# Altium footprint library Relay.PcbLib: 5 footprints
Each footprint in its own frame and in the unit in brackets; x right, y up, seen from the top. Pads: shape width x height; smd on the part's side, far side on the other; paste and mask are expansions set on the pad; w line width, h text height; cw(c..) or ccw(c..) is an arc to the next point about the centre after c.
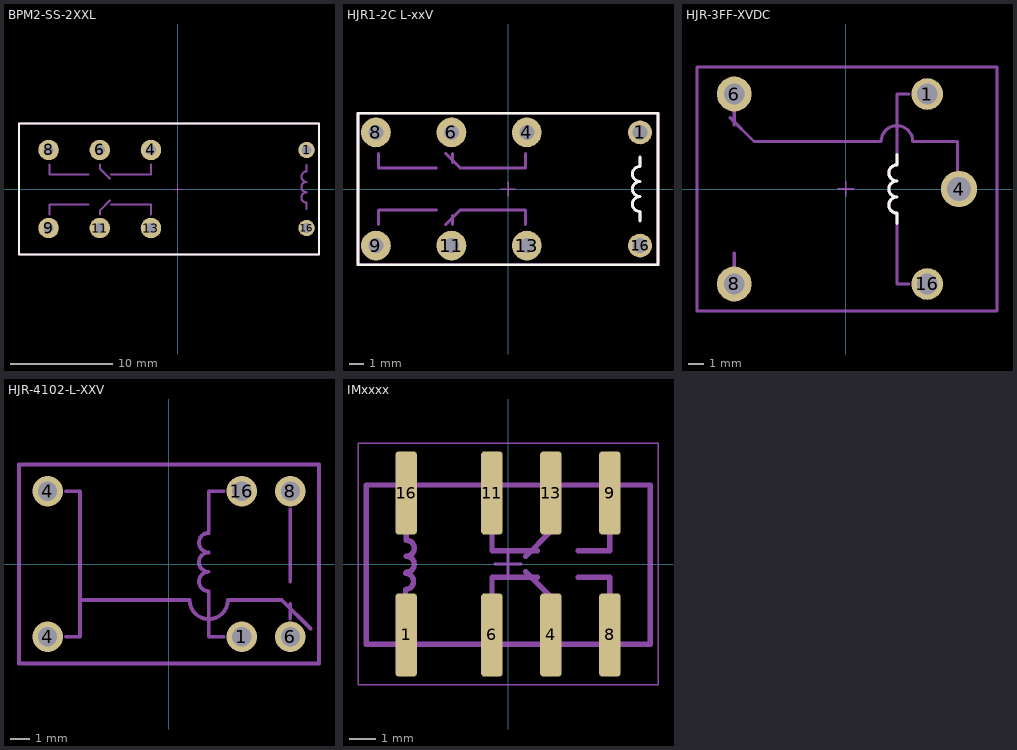
[diagram p0: the footprints below, top view; thin cyan lines are the x and y axes]

## BPM2-SS-2XXL [mm] "Relay с двумя парами контактов"
pads (8):
  round 1.6 hole 1: 1(12.6,3.81) 16(12.6,-3.81)
  round 2 hole 1: 4(-2.6,3.81) 6(-7.6,3.81) 8(-12.6,3.81) 9(-12.6,-3.81) 11(-7.6,-3.81) 13(-2.6,-3.81)
Top Overlay:
  lines w0.2: -15.49,-6.4 -15.49,6.4 13.81,6.4 13.81,-6.4 -15.49,-6.4
Top Assembly:
  lines w0.2: -12.505,-2.5 -12.505,-1.5 -8.705,-1.5 ; -12.505,2.4 -12.505,1.4 -8.705,1.4 ; -7.6,-2.5 -7.6,-2.105 -6.605,-1.11 ; -7.6,2.4 -7.6,2.005 -6.605,1.01 ; -6.505,-1.5 -2.6,-1.5 -2.6,-2.5 ; -6.505,1.4 -2.6,1.4 -2.6,2.4 ; 12.6,-1.968 12.6,-1.333 cw(c12.6,-0.825) 12.6,-0.317 cw(c12.6,0.191) 12.6,0.699 cw(c12.6,1.207) 12.6,1.715 12.6,2.349 ; -15.49,-6.4 -15.49,6.4 13.81,6.4 13.81,-6.4 -15.49,-6.4
Top Designator:
  text ".Designator" at 1.501,-0.233 h0.7
Top Courtyard (Mech15):
  lines w0.05: -15.49,-6.4 13.81,-6.4 13.81,6.4 -15.49,6.4 -15.49,-6.4
  lines w0.1: -0.5,0 0.5,0 ; 0,-0.5 0,0.5
3D body: height 20.4, standoff 0, extent -15.49,-6.4 13.81,6.4
3D body: height 0, standoff 0, extent 12.203,3.411 13,4.209
3D body: height 0, standoff 0, extent 12.203,-4.209 13,-3.411
3D body: height 0, standoff 0, extent -2.997,-4.209 -2.2,-3.411
3D body: height 0, standoff 0, extent -7.997,-4.209 -7.2,-3.411
3D body: height 0, standoff 0, extent -12.997,-4.209 -12.2,-3.411
3D body: height 0, standoff 0, extent -12.997,3.411 -12.2,4.209
3D body: height 0, standoff 0, extent -7.997,3.411 -7.2,4.209
3D body: height 0, standoff 0, extent -2.997,3.411 -2.2,4.209

## HJR1-2C L-xxV [mm] "Relay с двумя парами контактов"
pads (8):
  round 1.6 hole 1: 1(8.89,3.81) 16(8.89,-3.81)
  round 2 hole 1: 4(1.27,3.81) 6(-3.81,3.81) 8(-8.89,3.81) 9(-8.89,-3.81) 11(-3.81,-3.81) 13(1.27,-3.81)
Top Overlay:
  lines w0.2: 8.89,-2.159 8.89,-1.524 cw(c8.89,-1.016) 8.89,-0.508 cw(c8.89,0) 8.89,0.508 cw(c8.89,1.016) 8.89,1.524 8.89,2.159 ; -10.1,-5.1 10.1,-5.1 10.1,5.1 -10.1,5.1 -10.1,-5.1
Top Assembly:
  lines w0.2: -8.73,-2.4 -8.73,-1.4 -4.825,-1.4 ; -8.73,2.4 -8.73,1.4 -4.825,1.4 ; -4.2,-2.4 -3.2,-1.4 -2.625,-1.4 1.175,-1.4 1.175,-2.4 ; -4.2,2.4 -3.2,1.4 -2.625,1.4 1.175,1.4 1.175,2.4 ; -3.73,-2.4 -3.73,-1.8 ; -3.73,1.8 -3.73,2.4 ; 8.89,-2.159 8.89,-1.524 cw(c8.89,-1.016) 8.89,-0.508 cw(c8.89,0) 8.89,0.508 cw(c8.89,1.016) 8.89,1.524 8.89,2.159 ; -10.1,-5.1 10.1,-5.1 10.1,5.1 -10.1,5.1 -10.1,-5.1
Top Designator:
  text ".Designator" at 1.501,-0.233 h0.7
Top Courtyard (Mech15):
  lines w0.05: -10.1,-5.1 -10.1,5.1 10.1,5.1 10.1,-5.1 -10.1,-5.1
  lines w0.1: -0.5,0 0.5,0 ; 0,-0.5 0,0.5
3D body "SW3dPS-HFD27.STEP": height 11.52, standoff -3.09, extent -10.1,-5 10.1,5

## HJR-3FF-XVDC [mm] "Relay - ВОПРОСЫ ПО ПОСАДОЧНОМУ МЕСТУ"
pads (5):
  round 2 hole 1.3: 1(5.15,6) 16(5.15,-6)
  round 2.3 hole 1.5: 4(7.15,0)
  round 2.2 hole 1.3: 6(-7.05,6) 8(-7.05,-6)
Top Overlay:
  lines w0.2: 3.23,-2.159 3.23,-1.524 cw(c3.23,-1.016) 3.23,-0.508 cw(c3.23,0) 3.23,0.508 cw(c3.23,1.016) 3.23,1.524 3.23,2.159
Top Assembly:
  lines w0.2: -7.3,4.5 -5.8,3 -4.4,3 2.23,3 cw(c3.23,3) 4.23,3 7.05,3 7.05,0 ; -7.05,-6 -7.05,-4.05 ; -7.05,4.05 -7.05,6 ; 4,-6 3.23,-6 3.23,-2.159 3.23,-1.524 cw(c3.23,-1.016) 3.23,-0.508 cw(c3.23,0) 3.23,0.508 cw(c3.23,1.016) 3.23,1.524 3.23,2.159 3.23,6 4,6 ; -9.4,-7.7 -9.4,7.7 ; -9.4,-7.7 9.55,-7.7 ; -9.4,-7.7 -9.4,7.7 ; -9.4,-7.7 9.55,-7.7 ; -9.4,7.7 9.55,7.7 ; -9.4,7.7 9.55,7.7 ; 9.55,-7.7 9.55,7.7 ; 9.55,-7.7 9.55,7.7
  text "NC" at -6.8,4.5 h0.3
  text "NO" at -6.8,-4.825 h0.3
  text "COM" at 6,1.2 h0.3
Top Designator:
  text ".Designator" at -4.499,-0.233 h0.7
Top Courtyard (Mech15):
  lines w0.05: -9.4,-7.7 9.55,-7.7 9.55,7.7 -9.4,7.7 -9.4,-7.7
  lines w0.1: -0.5,0 0.5,0 ; 0,-0.5 0,0.5
3D body "User Library-Tianbo Relay ( HJR-3FF-S-Z).step": height 15.51, standoff -2.2, extent -10.5,-7.75 8.5,7.75

## HJR-4102-L-XXV [mm]
pads (6):
  round 1.6 hole 1: 1(3.81,-3.81) 4(-6.35,-3.81) 4(-6.35,3.81) 6(6.35,-3.81) 8(6.35,3.81) 16(3.81,3.81)
Top Assembly:
  lines w0.2: -5.39,-3.81 -4.65,-3.81 -4.65,-1.884 ; -5.39,3.81 -4.65,3.81 -4.65,-1.884 ; 2.85,-3.81 2.08,-3.81 2.08,-2.059 2.08,-1.424 cw(c2.08,-0.916) 2.08,-0.408 cw(c2.08,0.1) 2.08,0.608 cw(c2.08,1.116) 2.08,1.624 2.08,2.259 2.08,3.81 2.85,3.81 ; 6.35,-2.85 6.35,-2.08 ; 6.35,-0.916 6.35,2.85 ; 7.4,-3.384 5.9,-1.884 3.08,-1.884 cw(c2.08,-1.884) 1.08,-1.884 -4.65,-1.884 ; -7.85,-5.2 -7.85,5.2 7.85,5.2 7.85,-5.2 -7.85,-5.2
  text "COM" at -5.85,-2.8 h0.3
  text "NO" at 5.35,2.5 h0.3
  text "NC" at 5.35,-2.7 h0.3
Top Designator:
  text ".Designator" at -4.999,-0.233 h0.7
Top Courtyard (Mech15):
  lines w0.05: -7.85,-5.2 -7.85,5.2 7.85,5.2 7.85,-5.2 -7.85,-5.2
3D body "User Library-HJR-4102.step": height 11.8, standoff -2.14, extent -7.85,-5.2 7.85,5.2

## IMxxxx [mm]
pads (8):
  rrect30% 0.8x3.1 smd: 1(-3.8,-2.65) 4(1.6,-2.65) 6(-0.6,-2.65) 8(3.8,-2.65) 9(3.8,2.65) 11(-0.6,2.65) 13(1.6,2.65) 16(-3.8,2.65)
Top Assembly:
  lines w0.2: -4,-3 -4,-3.65 -3.6,-3.65 -3.6,-3 ; -4,3 -4,3.65 -3.6,3.65 -3.6,3 ; -3.825,-1.585 -3.825,-0.95 ccw(c-3.825,-0.65) -3.825,-0.35 ; -3.8,-0.309 ccw(c-3.8,-0.009) -3.8,0.291 ccw(c-3.8,0.591) -3.8,0.891 -3.8,1.526 ; -0.8,-3 -0.8,-3.65 -0.4,-3.65 -0.4,-3 ; -0.8,3 -0.8,3.65 -0.4,3.65 -0.4,3 ; -0.6,-1.585 -0.6,-0.5 1.1,-0.5 ; -0.6,1.585 -0.6,0.5 1.1,0.5 ; 0.66,-0.285 1.6,-1.225 1.6,-1.585 ; 0.663,0.288 1.6,1.225 1.6,1.585 ; 1.4,-3 1.4,-3.65 1.8,-3.65 1.8,-3 ; 1.4,3 1.4,3.65 1.8,3.65 1.8,3 ; 2.625,-0.5 3.8,-0.5 3.8,-1.585 ; 2.625,0.5 3.8,0.5 3.8,1.585 ; 3.6,-3 3.6,-3.65 4,-3.65 4,-3 ; 3.6,3 3.6,3.65 4,3.65 4,3 ; -5.29,-3 -5.29,2.95 -2.657,2.95 4.791,2.95 5.31,2.95 5.31,-3 -5.29,-3
Top Designator:
  text ".Designator" at -1.767,-3.499 h0.7
Top Courtyard (Mech15):
  lines w0.05: -5.6,-4.5 5.6,-4.5 5.6,4.5 -5.6,4.5 -5.6,-4.5
  lines w0.1: -0.5,0 0.5,0 ; 0,-0.5 0,0.5
3D body "User Library-FTR-B4GA.step": height 9.71, standoff 0, extent -5.29,-3.706 5.31,3.7